# Altium integrated library pedals-headers.IntLib: 17 symbols
Pins are listed as number, name and electrical type; pins without a type are passive.

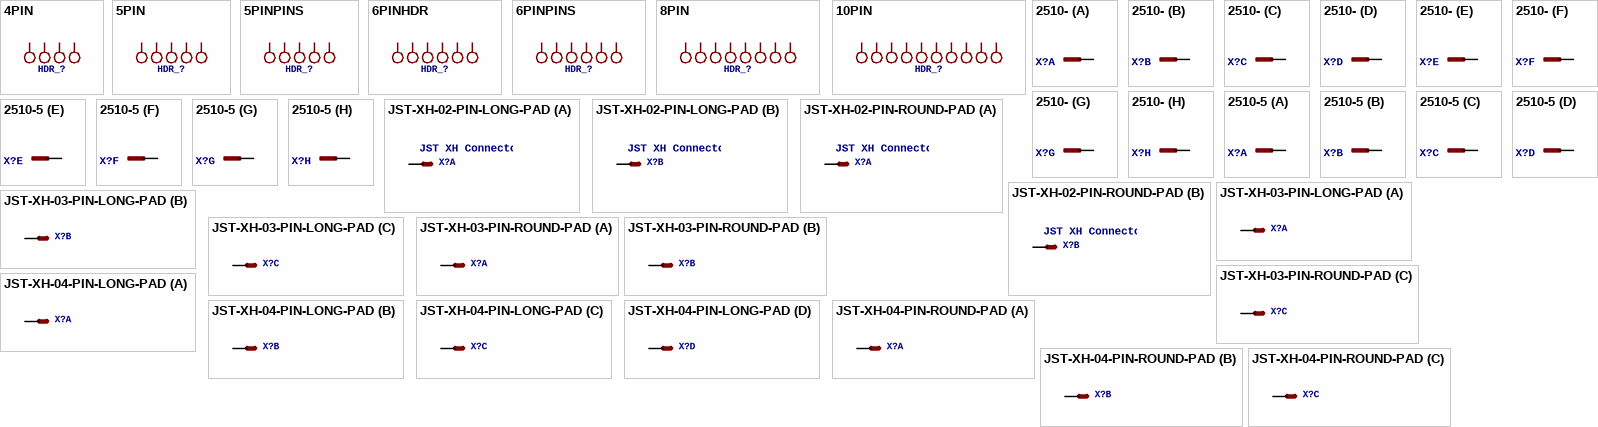
[diagram p0: symbols 4PIN to JST-XH-04-PIN-ROUND-PAD]

## 4PIN
designator HDR_?
footprint 4PIN
pins: P$1 1, P$2 2, P$3 3, P$4 4

## 5PIN
designator HDR_?
footprint 5PIN-HDR
pins: P$1 1, P$2 2, P$3 3, P$4 4, P$5 5

## 5PINPINS
designator HDR_?
footprint 5PIN-PINS
pins: P$1 1, P$2 2, P$3 3, P$4 4, P$5 5

## 6PINHDR
designator HDR_?
footprint 6PIN-HDR
pins: P$1 1, P$2 2, P$3 3, P$4 4, P$5 5, P$6 6

## 6PINPINS
designator HDR_?
footprint 6PIN-PINS
pins: P$1 1, P$2 2, P$3 3, P$4 4, P$5 5, P$6 6

## 8PIN
designator HDR_?
footprint 8PIN-HDR
pins: P$1 1, P$2 2, P$3 3, P$4 4, P$5 5, P$6 6, P$7 7, P$8 8

## 10PIN
designator HDR_?
footprint 10PIN
pins: P$1 1, P$2 2, P$3 3, P$4 4, P$5 5, P$6 6, P$7 7, P$8 8, P$9 9, P$10 10

## 2510-
designator X?, comment 3M (TM) Pak 100 4-Wall Header   Source: 3M  (value not drawn)
MPN: 2510-6002UB; MF: 3M; OC_FARNELL: 9838244; OC_NEWARK: 46F4725
footprint PAK100/2500-10
part A pins: 1 KL
part B pins: 2 KL
part C pins: 3 KL
part D pins: 4 KL
part E pins: 5 KL
part F pins: 6 KL
part G pins: 7 KL
part H pins: 8 KL

## 2510-5
designator X?, comment 3M (TM) Pak 100 4-Wall Header   Source: 3M  (value not drawn)
OC_FARNELL: 1788669; OC_NEWARK: unknown
footprint PAK100/2500-5-10
part A pins: 1 KL
part B pins: 2 KL
part C pins: 3 KL
part D pins: 4 KL
part E pins: 5 KL
part F pins: 6 KL
part G pins: 7 KL
part H pins: 8 KL

## JST-XH-02-PIN-LONG-PAD
designator X?, comment JST XH Connector 2 Pin   Wire to board connector. Pitch: 2,54 mm, (0.100")   Number of pins: 2   Created by Rembrandt Electronics   www.rembrandtelectronics.com
footprint JST-XH-02-PACKAGE-LONG-PAD
part A pins: 2 S
part B pins: 1 S

## JST-XH-02-PIN-ROUND-PAD
designator X?, comment JST XH Connector 2 Pin   Wire to board connector. Pitch: 2,54 mm, (0.100")   Number of pins: 2   Created by Rembrandt Electronics   www.rembrandtelectronics.com
footprint JST-XH-02-PACKAGE-ROUND-PAD
part A pins: 2 S
part B pins: 1 S

## JST-XH-03-PIN-LONG-PAD
designator X?, comment JST XH Connector 2 Pin   Wire to board connector. Pitch: 2,54 mm, (0.100")   Number of pins: 3   Created by Rembrandt Electronics   www.rembrandtelectronics.com  (value not drawn)
footprint JST-XH-03-PACKAGE-LONG-PAD
part A pins: 1 S
part B pins: 2 S
part C pins: 3 S

## JST-XH-03-PIN-ROUND-PAD
designator X?, comment JST XH Connector 2 Pin   Wire to board connector. Pitch: 2,54 mm, (0.100")   Number of pins: 3   Created by Rembrandt Electronics   www.rembrandtelectronics.com  (value not drawn)
footprint JST-XH-03-PACKAGE-ROUND-PAD
part A pins: 1 S
part B pins: 2 S
part C pins: 3 S

## JST-XH-04-PIN-LONG-PAD
designator X?, comment JST XH Connector 2 Pin   Wire to board connector. Pitch: 2,54 mm, (0.100")   Number of pins: 4   Created by Rembrandt Electronics   www.rembrandtelectronics.com  (value not drawn)
footprint JST-XH-04-PACKAGE-LONG-PAD
part A pins: 1 S
part B pins: 2 S
part C pins: 3 S
part D pins: 4 S

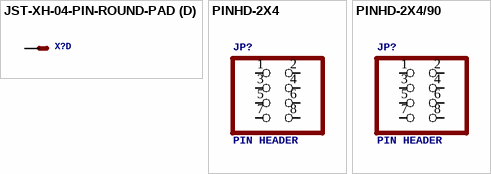
[diagram p1: symbols JST-XH-04-PIN-ROUND-PAD to PINHD-2X4/90]

## JST-XH-04-PIN-ROUND-PAD
designator X?, comment JST XH Connector 2 Pin   Wire to board connector. Pitch: 2,54 mm, (0.100")   Number of pins: 4   Created by Rembrandt Electronics   www.rembrandtelectronics.com  (value not drawn)
footprint JST-XH-04-PACKAGE-ROUND-PAD
part A pins: 1 S
part B pins: 2 S
part C pins: 3 S
part D pins: 4 S

## PINHD-2X4
designator JP?, comment PIN HEADER
footprint 2X04
pins: 1, 2, 3, 4, 5, 6, 7, 8

## PINHD-2X4/90
designator JP?, comment PIN HEADER
footprint 2X04/90
pins: 1, 2, 3, 4, 5, 6, 7, 8